# Altium footprint library LED_Shield_PCB_v11.PcbLib: 2 footprints
Each footprint in its own frame and in the unit in brackets; x right, y up, seen from the top. Pads: shape width x height; smd on the part's side, far side on the other; paste and mask are expansions set on the pad; w line width, h text height; cw(c..) or ccw(c..) is an arc to the next point about the centre after c.
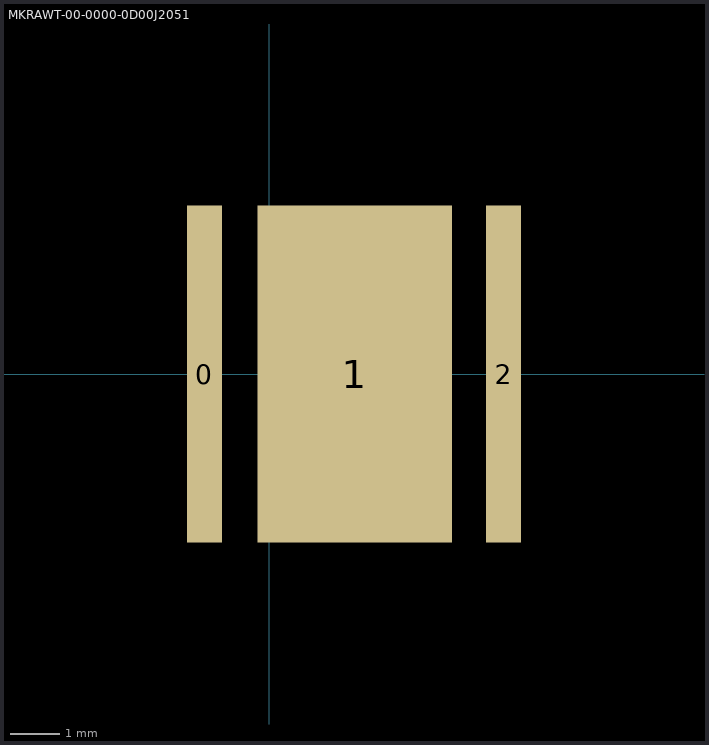
[diagram p0: the footprints below, top view; thin cyan lines are the x and y axes]

## MKRAWT-00-0000-0D00J2051 [mm]
pads (3):
  rect 0.7x6.76 smd: 0(-1.295,0) 2(4.699,0)
  rect 3.9x6.76 smd: 1(1.714,0)

## PCBComponent_1 [mm]